# Altium footprint library switch.PcbLib: 1 footprints
Each footprint in its own frame and in the unit in brackets; x right, y up, seen from the top. Pads: shape width x height; smd on the part's side, far side on the other; paste and mask are expansions set on the pad; w line width, h text height; cw(c..) or ccw(c..) is an arc to the next point about the centre after c.
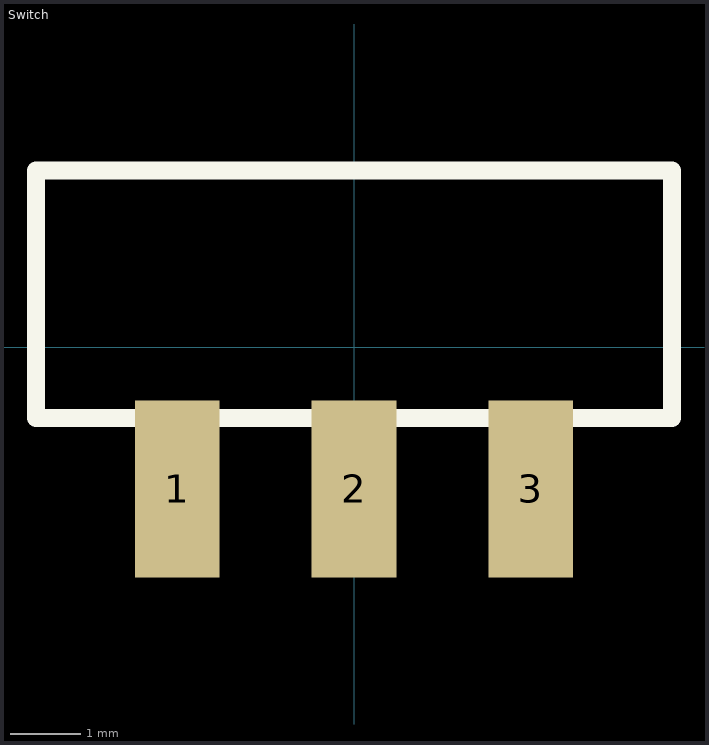
[diagram p0: the footprint, top view; thin cyan lines are the x and y axes]

## Switch [mm]
height 10
pads (3):
  rect 1.2x2.5 smd: 1(-2.5,-2) 2(0,-2) 3(2.5,-2)
Top Overlay:
  lines w0.254: -4.5,-1 0,-1 4.5,-1 4.5,2.5 -4.5,2.5 -4.5,-1